# Altium schematic symbol library Schlib1.SchLib: 7 symbols
Pins are listed as number, name and electrical type; pins without a type are passive.

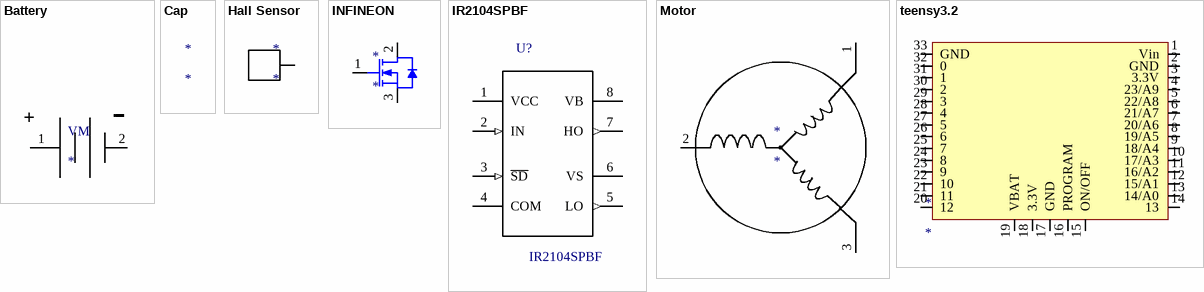
[diagram p0: symbols Battery to teensy3.2]

## Battery
designator VM
footprint *AMASS_XT60-M
pins: 1 (power), 2 (power)
text: -; +

## Cap
designator *

## Hall Sensor
designator *
footprint A single pin
pins: 0

## INFINEON
designator *
footprint MOSFET-2
pins: 1 G, 2 D, 3 S

## IR2104SPBF
designator U?
Half-Bridge Gate Driver IC Non-Inverting 8-SOIC; MF: Infineon Technologies; Availability: Unavailable; Price: None; SnapEDA_Link: https://www.snapeda.com/parts/IR2104SPBF/Infineon%20Technologies/view-part/1592421/?ref=snap; MP: IR2104SPBF; Package: SOIC-8 Infineon; Value: *
footprint *SOIC127P600X175-8N
pins: 1 VCC (power), 2 IN (in), 3 ~{SD} (in), 4 COM, 5 LO (out), 6 VS (power), 7 HO (out), 8 VB (power)

## Motor
designator *
footprint Motor
pins: 1 A, 2 B, 3 C

## teensy3.2
designator *
footprint teensy3.2
pins: 1 Vin, 2 GND, 3 3.3V, 4 23/A9, 5 22/A8, 6 21/A7, 7 20/A6, 8 19/A5, 9 18/A4, 10 17/A3, 11 16/A2, 12 15/A1, 13 14/A0, 14 13, 15 ON/OFF, 16 PROGRAM, 17 GND, 18 3.3V, 19 VBAT, 20 12, 21 11, 22 10, 23 9, 24 8, 25 7, 26 6, 27 5, 28 4, 29 3, 30 2, 31 1, 32 0, 33 GND